# Altium schematic symbol library SCH - ARM CORTEX - STM STM32F038K6Ux.SchLib: 1 symbol
Pins are listed as number, name and electrical type; pins without a type are passive.

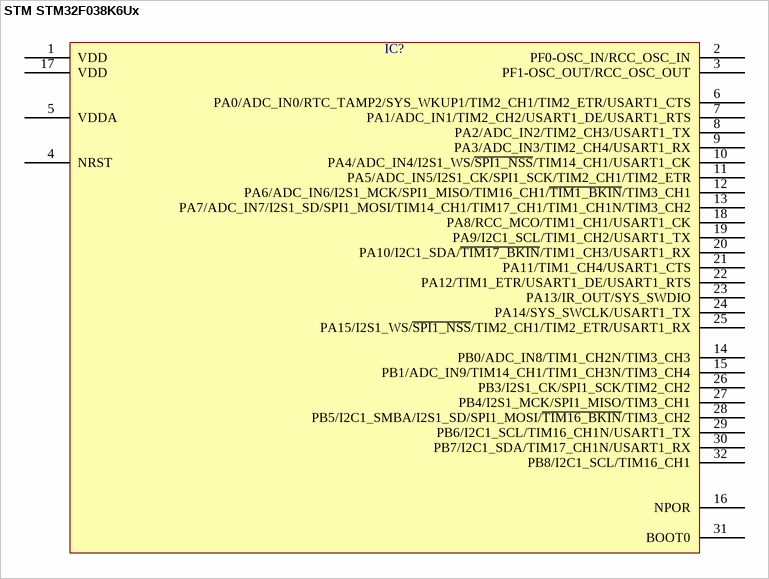
[diagram p0: symbol STM STM32F038K6Ux]

## STM STM32F038K6Ux
designator IC?  (value not drawn)
pins: 1 VDD, 2 PF0-OSC_IN/RCC_OSC_IN, 3 PF1-OSC_OUT/RCC_OSC_OUT, 4 NRST, 5 VDDA, 6 PA0/ADC_IN0/RTC_TAMP2/SYS_WKUP1/TIM2_CH1/TIM2_ETR/USART1_CTS, 7 PA1/ADC_IN1/TIM2_CH2/USART1_DE/USART1_RTS, 8 PA2/ADC_IN2/TIM2_CH3/USART1_TX, 9 PA3/ADC_IN3/TIM2_CH4/USART1_RX, 10 PA4/ADC_IN4/I2S1_WS/~{SPI1_NSS}/TIM14_CH1/USART1_CK, 11 PA5/ADC_IN5/I2S1_CK/SPI1_SCK/TIM2_CH1/TIM2_ETR, 12 PA6/ADC_IN6/I2S1_MCK/SPI1_MISO/TIM16_CH1/~{TIM1_BKIN}/TIM3_CH1, 13 PA7/ADC_IN7/I2S1_SD/SPI1_MOSI/TIM14_CH1/TIM17_CH1/TIM1_CH1N/TIM3_CH2, 14 PB0/ADC_IN8/TIM1_CH2N/TIM3_CH3, 15 PB1/ADC_IN9/TIM14_CH1/TIM1_CH3N/TIM3_CH4, 16 NPOR, 17 VDD, 18 PA8/RCC_MCO/TIM1_CH1/USART1_CK, 19 PA9/I2C1_SCL/TIM1_CH2/USART1_TX, 20 PA10/I2C1_SDA/~{TIM17_BKIN}/TIM1_CH3/USART1_RX, 21 PA11/TIM1_CH4/USART1_CTS, 22 PA12/TIM1_ETR/USART1_DE/USART1_RTS, 23 PA13/IR_OUT/SYS_SWDIO, 24 PA14/SYS_SWCLK/USART1_TX, 25 PA15/I2S1_WS/~{SPI1_NSS}/TIM2_CH1/TIM2_ETR/USART1_RX, 26 PB3/I2S1_CK/SPI1_SCK/TIM2_CH2, 27 PB4/I2S1_MCK/SPI1_MISO/TIM3_CH1, 28 PB5/I2C1_SMBA/I2S1_SD/SPI1_MOSI/~{TIM16_BKIN}/TIM3_CH2, 29 PB6/I2C1_SCL/TIM16_CH1N/USART1_TX, 30 PB7/I2C1_SDA/TIM17_CH1N/USART1_RX, 31 BOOT0, 32 PB8/I2C1_SCL/TIM16_CH1